# EAGLE library part TERM-BLOCK-12 (library Mechanical)
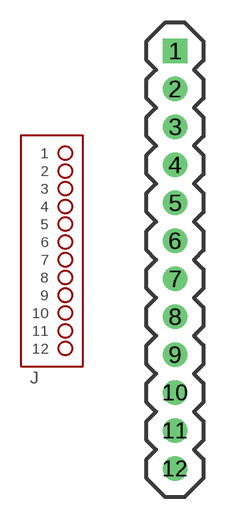
[diagram p91: symbol with the pads of HDR-1X12; footprint HDR-1X12]

Designator prefix J

## TERM-BLOCK-12  [HDR-1X12]
1  1  pas
2  2  pas
3  3  pas
4  4  pas
5  5  pas
6  6  pas
7  7  pas
8  8  pas
9  9  pas
10  10  pas
11  11  pas
12  12  pas

## Footprint HDR-1X12 (pad centres in mm)
drill 1.1 square: 1 0,0
drill 1.1: 2 0,-2.54; 3 0,-5.08; 4 0,-7.62; 5 0,-10.16; 6 0,-12.7; 7 0,-15.24; 8 0,-17.78; 9 0,-20.32; 10 0,-22.86; 11 0,-25.4; 12 0,-27.94